# Altium footprint library Custom_Footprints_Jan_Wendler.PcbLib: 3 footprints
Each footprint in its own frame and in the unit in brackets; x right, y up, seen from the top. Pads: shape width x height; smd on the part's side, far side on the other; paste and mask are expansions set on the pad; w line width, h text height; cw(c..) or ccw(c..) is an arc to the next point about the centre after c.
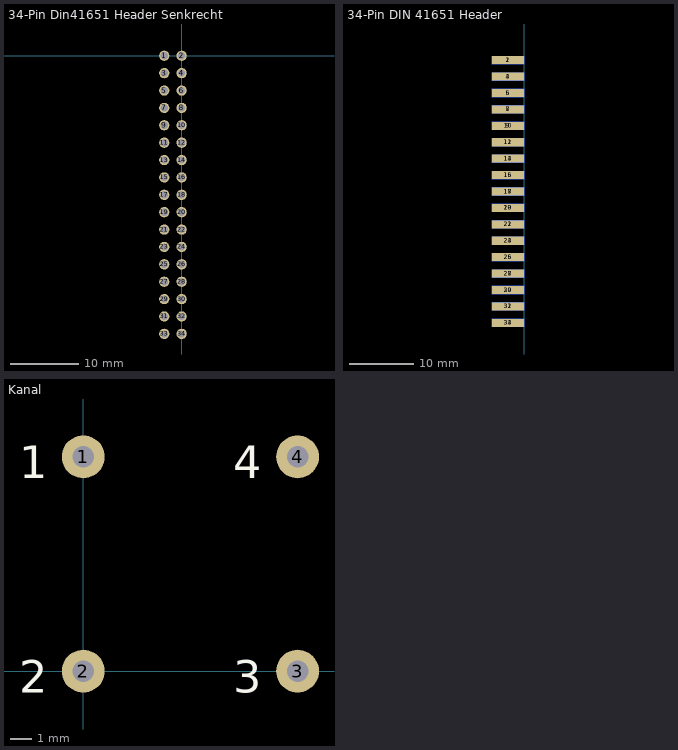
[diagram p0: the footprints below, top view; thin cyan lines are the x and y axes]

## 34-Pin Din41651 Header Senkrecht [mm]
pads (34):
  round 1.5 hole 1.05: 1(-2.54,0) 2(0,0) 3(-2.54,-2.54) 4(0,-2.54) 5(-2.54,-5.08) 6(0,-5.08) 7(-2.54,-7.62) 8(0,-7.62) 9(-2.54,-10.16) 10(0,-10.16) 11(-2.54,-12.7) 12(0,-12.7) 13(-2.54,-15.24) 14(0,-15.24) 15(-2.54,-17.78) 16(0,-17.78) 17(-2.54,-20.32) 18(0,-20.32) 19(-2.54,-22.86) 20(0,-22.86) 21(-2.54,-25.4) 22(0,-25.4) 23(-2.54,-27.94) 24(0,-27.94) 25(-2.54,-30.48) 26(0,-30.48) 27(-2.54,-33.02) 28(0,-33.02) 29(-2.54,-35.56) 30(0,-35.56) 31(-2.54,-38.1) 32(0,-38.1) 33(-2.54,-40.64) 34(0,-40.64)
Bottom Overlay:
  circle w1: c-4,2 r0.447

## 34-Pin DIN 41651 Header [mm]
pads (34):
  rect 5x1.25 smd far side: 1(-2.54,51.72) 3(-2.54,49.18) 5(-2.54,46.64) 7(-2.54,44.1) 9(-2.54,41.56) 11(-2.54,39.02) 13(-2.54,36.48) 15(-2.54,33.94) 17(-2.54,31.4) 19(-2.54,28.86) 21(-2.54,26.32) 23(-2.54,23.78) 25(-2.54,21.24) 27(-2.54,18.7) 29(-2.54,16.16) 31(-2.54,13.62) 33(-2.54,11.08)
  rect 5x1.25 smd: 2(-2.54,51.72) 4(-2.54,49.18) 6(-2.54,46.64) 8(-2.54,44.1) 10(-2.54,41.56) 12(-2.54,39.02) 14(-2.54,36.48) 16(-2.54,33.94) 18(-2.54,31.4) 20(-2.54,28.86) 22(-2.54,26.32) 24(-2.54,23.78) 26(-2.54,21.24) 28(-2.54,18.7) 30(-2.54,16.16) 32(-2.54,13.62) 34(-2.54,11.08)
Bottom Overlay:
  circle w1: c-2.9,54.5 r0.5

## Kanal [mm]
pads (4):
  round 2 hole 1: 1(0,10) 2(0,0) 3(10,0) 4(10,10)
Top Overlay:
  text "1" at -3,9 h1.52
  text "2" at -3,-1 h1.52
  text "3" at 7,-1 h1.52
  text "4" at 7,9 h1.52